# EAGLE library part WF-9 (library gost_con_wf)
Разъем WF шаг 2.54mm
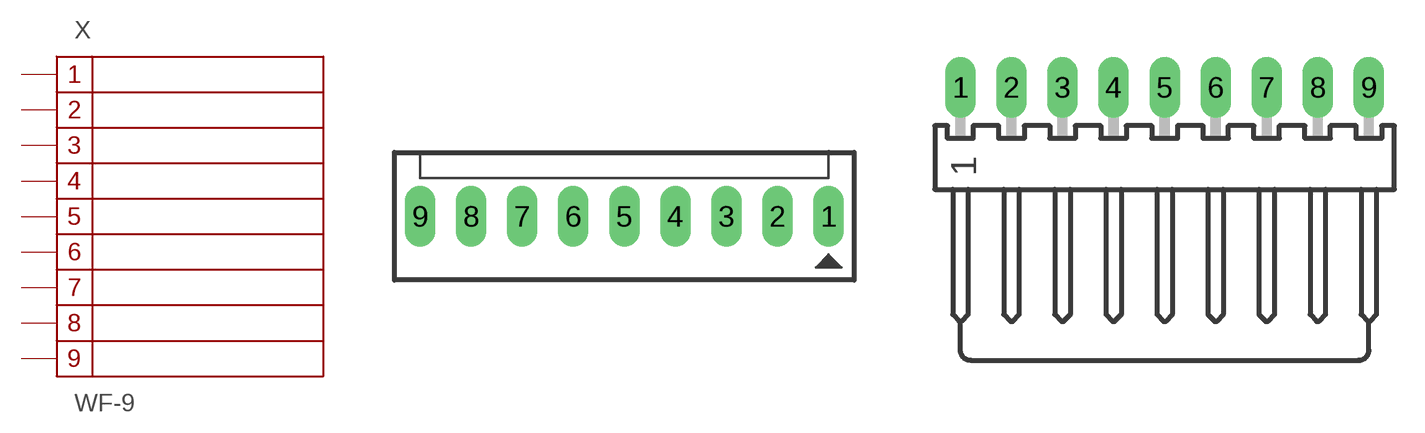
[diagram p8: symbol with the pads of WF-9; footprints WF-9, WF-9R]

Designator prefix X

## WF-9  [WF-9]
1  1
2  2
3  3
4  4
5  5
6  6
7  7
8  8
9  9

## WF-9R  [WF-9R]
Pads as for WF-9

## Footprint WF-9 (pad centres in mm)
Разъем WF-9 2.54mm
drill 1 pad 1.5 long: 1 10.16,0; 2 7.62,0; 3 5.08,0; 4 2.54,0; 5 0,0; 6 -2.54,0; 7 -5.08,0; 8 -7.62,0; 9 -10.16,0

## Footprint WF-9R (pad centres in mm)
Разъем WF-9R 2.54mm
drill 1.016 pad 1.5 long: 1 -10.16,0; 2 -7.62,0; 3 -5.08,0; 4 -2.54,0; 5 0,0; 6 2.54,0; 7 5.08,0; 8 7.62,0; 9 10.16,0